# Altium schematic symbol library CONN FFC FPC 4POS 0.50MM.SchLib: 1 symbol
Pins are listed as number, name and electrical type; pins without a type are passive.

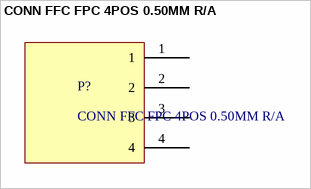
[diagram p0: symbol CONN FFC FPC 4POS 0.50MM R/A]

## CONN FFC FPC 4POS 0.50MM R/A
designator P?
pins: 1, 2, 3, 4